# EAGLE library part 691401710007 (library Wurth_Elektronik_Electromechanic_Terminal_Blocks_Connectors_rev16b)
WR-TBL Terminal block - serie 401 5,0mm - Spring clamp/Screw less - horizontal entry Code:Con_TBL_Screwless_5.00_6914017100xxB Created 2014-12-22, aslant tao 2014 (C) Würth Elektronik
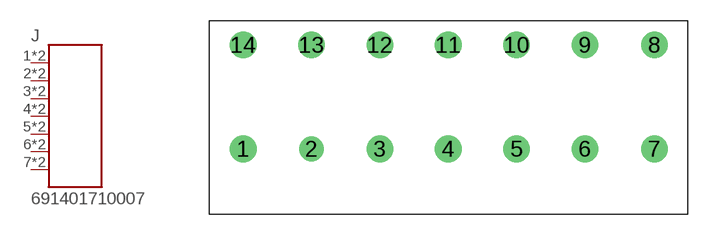
[diagram p213: symbol with the pads of 691401710007; footprint 691401710007]

Designator prefix J

## 691401710007  [691401710007]
1  1  pas
2  2  pas
3  3  pas
4  4  pas
5  5  pas
6  6  pas
7  7  pas
8  7  pas
9  6  pas
10  5  pas
11  4  pas
12  3  pas
13  2  pas
14  1  pas

## Footprint 691401710007 (pad centres in mm)
WR-TBL Serie 401 - 5.0mm Screwless Horizontal Entry - 2 mm2 Wires, 7 Pins
drill 1.3: 1 -25.08,0; 3 -15.08,0; 4 -10.08,0; 5 -5.08,0; 6 -0.08,0; 7 5,0; 8 5,7.62; 9 -0.08,7.62; 10 -5.08,7.62; 11 -10.08,7.62; 12 -15.08,7.62; 13 -20.08,7.62; 14 -25.08,7.62
drill 1.2: 2 -20.08,0